# Altium schematic symbol library pth-capacitor.SchLib: 7 symbols
Pins are listed as number, name and electrical type; pins without a type are passive.

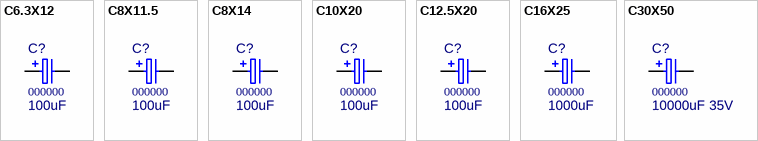
[diagram p0: symbols C6.3X12 to C30X50]

## C6.3X12
designator C?, comment 000000  value 100uF
Aluminum Electrolytic Capacitor; PN: 000000; Package: 6.3x12mm; ExtraInfo: *
footprint C6.3X12-2.5 (CAP ALUM RADIAL 6.3x12 2.5 mm)
pins: 1, 2
1 alternate drawing of the same symbol

## C8X11.5
designator C?, comment 000000  value 100uF
Aluminum Electrolytic Capacitor; PN: 000000; Package: 8x11.5mm; ExtraInfo: *
footprint C8X11.5-3.5 (CAP ALUM RADIAL 8x11.5 3.5 mm)
pins: 1, 2
1 alternate drawing of the same symbol

## C8X14
designator C?, comment 000000  value 100uF
Aluminum Electrolytic Capacitor; PN: 000000; Package: 8x14mm; ExtraInfo: *
footprint C8X14-3.8 (CAP ALUM RADIAL 8x14 3.8 Pitch)
pins: 1, 2
1 alternate drawing of the same symbol

## C10X20
designator C?, comment 000000  value 100uF
Aluminum Electrolytic Capacitor; PN: 000000; Package: 10x20mm; ExtraInfo: *
footprint C10X20-5.0 (CAP ALUM RADIAL 10x20 5.0 Pitch)
footprint C10X20-COMBO (CAP ALUM RADIAL 10x20 3.5/5.0 Pitch)
footprint C10X20-5.0 or 8x20-3.5 (CAP ALUM RADIAL 10x20 5.0 or 8x20 0.35)
pins: 1, 2
1 alternate drawing of the same symbol

## C12.5X20
designator C?, comment 000000  value 100uF
Aluminum Electrolytic Capacitor; PN: 000000; Package: 12.5x20mm; ExtraInfo: *
footprint C12.5X20-5.0 (CAP ALUM RADIAL 12.5x20 5.0 Pitch)
pins: 1, 2
1 alternate drawing of the same symbol

## C16X25
designator C?, comment 000000  value 1000uF
Aluminum Electrolytic Capacitor; PN: 000000; Package: 16x25mm; ExtraInfo: *
footprint C16X25 (CAP ALUM RADIAL 16x25)
pins: 1, 2
1 alternate drawing of the same symbol

## C30X50
designator C?, comment 000000  value 10000uF 35V
Aluminum Electrolytic Capacitor; PN: 000000; Package: 30x50mm; ExtraInfo: *; MF PN: *; Price: *; Digi-Key PN: *
footprint C30X50 (CAP ALUM RADIAL 30x50)
pins: 1, 2
1 alternate drawing of the same symbol